# Altium footprint library Relay_THT.PcbLib: 117 footprints (part 6 of 8)
Each footprint in its own frame and in the unit in brackets; x right, y up, seen from the top. Pads: shape width x height; smd on the part's side, far side on the other; paste and mask are expansions set on the pad; w line width, h text height; cw(c..) or ccw(c..) is an arc to the next point about the centre after c.
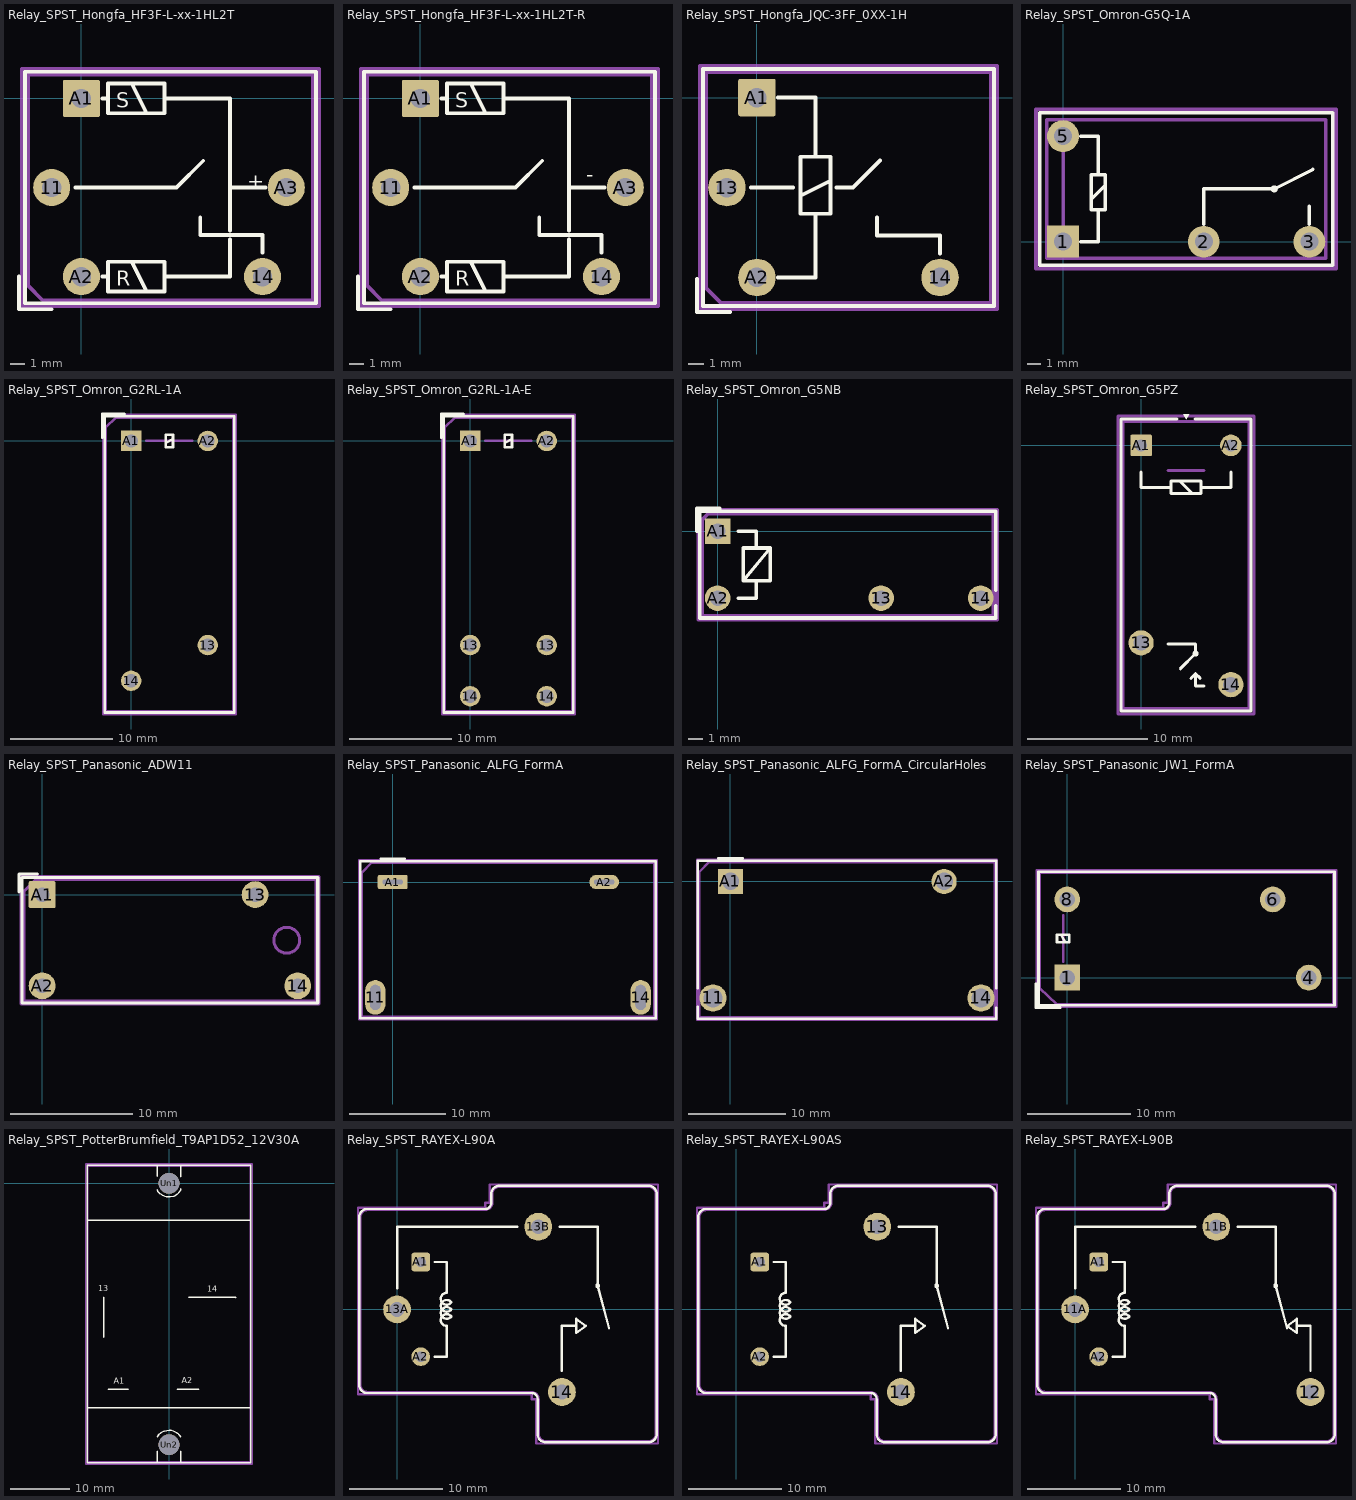
[diagram p5: the footprints below, top view; thin cyan lines are the x and y axes]

## Relay_SPST_Hongfa_HF3F-L-xx-1HL2T [mm]
pads (5):
  round 2.5 hole 1.3: 11(-2,-6) 14(12.2,-12) A2(0,-12) A3(13.8,-6)
  rrect10% 2.5x2.5 hole 1.3: A1(0,0)
F.SilkS:
  lines w0.254: -4.2,-12 -4.2,-14.2 -2,-14.2 ; -0.4,-6 6.4,-6 8.2,-4.2 ; 1.4,-12 1.8,-12 ; 1.4,0 1.8,0 ; 3.4,-11 4.4,-13 ; 3.4,1 4.4,-1 ; 5.6,-12 10,-12 10,-9.5 ; 5.6,0 10,0 10,-2.4 10,-8.9 ; 8,-8 8,-9.2 12.2,-9.2 12.2,-10.4 ; 10,-6 12.4,-6 ; -3.8,-13.8 -3.8,1.8 15.8,1.8 15.8,-13.8 -3.8,-13.8 ; 1.8,-13 1.8,-11 5.6,-11 5.6,-13 1.8,-13 ; 1.8,-1 1.8,1 5.6,1 5.6,-1 1.8,-1
  text "S" at 2.347,-0.62 h1
  text "R" at 2.347,-12.62 h1
  text "+" at 11.18,-6.048 h1
F.Fab:
  lines w0.254: -3.6,-12.6 -3.6,1.6 15.6,1.6 15.6,-13.6 -2.6,-13.6 -3.6,-12.6
  text "'.Designator'" at 2.153,-6.84 h1
F.CrtYd:
  lines w0.254: -4,-14 -4,2 16,2 16,-14 -4,-14

## Relay_SPST_Hongfa_HF3F-L-xx-1HL2T-R [mm]
pads (5):
  round 2.5 hole 1.3: 11(-2,-6) 14(12.2,-12) A2(0,-12) A3(13.8,-6)
  rrect10% 2.5x2.5 hole 1.3: A1(0,0)
F.SilkS:
  lines w0.254: -4.2,-12 -4.2,-14.2 -2,-14.2 ; -0.4,-6 6.4,-6 8.2,-4.2 ; 1.4,-12 1.8,-12 ; 1.4,0 1.8,0 ; 3.4,-11 4.4,-13 ; 3.4,1 4.4,-1 ; 5.6,-12 10,-12 10,-9.5 ; 5.6,0 10,0 10,-2.4 10,-8.9 ; 8,-8 8,-9.2 12.2,-9.2 12.2,-10.4 ; 10,-6 12.4,-6 ; -3.8,-13.8 -3.8,1.8 15.8,1.8 15.8,-13.8 -3.8,-13.8 ; 1.8,-13 1.8,-11 5.6,-11 5.6,-13 1.8,-13 ; 1.8,-1 1.8,1 5.6,1 5.6,-1 1.8,-1
  text "S" at 2.347,-0.62 h1
  text "R" at 2.347,-12.62 h1
  text "-" at 11.18,-5.62 h1
F.Fab:
  lines w0.254: -3.6,-12.6 -3.6,1.6 15.6,1.6 15.6,-13.6 -2.6,-13.6 -3.6,-12.6
  text "'.Designator'" at 2.153,-6.84 h1
F.CrtYd:
  lines w0.254: -4,-14 -4,2 16,2 16,-14 -4,-14

## Relay_SPST_Hongfa_JQC-3FF_0XX-1H [mm]
pads (4):
  round 2.5 hole 1.3: 13(-2,-6) 14(12.2,-12) A2(0,-12)
  rrect10% 2.5x2.5 hole 1.3: A1(0,0)
F.SilkS:
  lines w0.254: -4,-12.1 -4,-14.3 -1.8,-14.3 ; -0.4,-6 2.4,-6 ; 1.4,-12 3.9,-12 3.9,-7.75 ; 1.4,0 3.9,0 3.9,-3.95 ; 2.9,-6.55 4.9,-5.55 ; 5.3,-6 6.4,-6 8.2,-4.2 ; 8,-8 8,-9.2 12.2,-9.2 12.2,-10.4 ; -3.6,-13.9 -3.6,1.9 15.8,1.9 15.8,-13.9 -3.6,-13.9 ; 2.9,-7.75 2.9,-3.95 4.9,-3.95 4.9,-7.75 2.9,-7.75
F.Fab:
  lines w0.254: -3.4,-12.7 -3.4,1.7 15.6,1.7 15.6,-13.7 -2.4,-13.7 -3.4,-12.7
  text "'.Designator'" at 2.153,-6.84 h1
F.CrtYd:
  lines w0.254: -3.8,-14.1 -3.8,2.1 16,2.1 16,-14.1 -3.8,-14.1

## Relay_SPST_Omron-G5Q-1A [mm]
pads (4):
  rect 2.3x2.3 hole 1.3: 1(0,0)
  round 2.3 hole 1.3: 2(10.16,0) 3(17.78,0) 5(0,7.62)
F.SilkS:
  circle w0.254: c15.24,3.81 r0.13
  lines w0.254: 1.27,0 2.54,0 2.54,2.29 ; 1.27,7.62 2.54,7.62 2.54,4.83 ; 2.03,3.05 3.05,4.06 ; 10.16,1.27 10.16,3.81 15.24,3.81 18.03,5.21 ; 17.78,1.27 17.78,2.54 ; 2.54,2.29 3.05,2.29 3.05,4.83 2.54,4.83 ; 2.54,2.29 2.03,2.29 2.03,4.83 2.54,4.83 ; -1.68,-1.69 19.46,-1.69 19.46,9.31 -1.68,9.31 -1.68,-1.69
F.Fab:
  lines w0.254: 0,1 0,6.5 ; -1.18,-1.19 18.96,-1.19 18.96,8.81 -1.18,8.81 -1.18,-1.19
  text "'.Designator'" at 5.553,3.66 h1
F.CrtYd:
  lines w0.254: -1.95,-1.95 19.7,-1.95 19.7,9.55 -1.95,9.55 -1.95,-1.95

## Relay_SPST_Omron_G2RL-1A [mm]
pads (4):
  round 2 hole 1.3: 13(7.5,-20) 14(0,-23.5) A2(7.5,0)
  rect 2x2 hole 1.3: A1(0,0)
F.SilkS:
  lines w0.254: -2.84,0.3 -2.84,2.64 -0.65,2.64 ; 3.4,-0.2 4.1,0.2 ; -2.6,-26.6 -2.6,2.4 10.1,2.4 10.1,-26.6 -2.6,-26.6 ; 3.4,-0.6 3.4,0.6 4.1,0.6 4.1,-0.6 3.4,-0.6
F.Fab:
  lines w0.254: 1.5,0 6,0 ; -2.5,-26.5 -2.5,1.3 -1.5,2.3 10,2.3 10,-26.5 -2.5,-26.5
  text "'.Designator'" at 4.59,-16.047 h1
F.CrtYd:
  lines w0.254: -2.75,-26.75 -2.75,2.55 10.25,2.55 10.25,-26.75 -2.75,-26.75

## Relay_SPST_Omron_G2RL-1A-E [mm]
pads (6):
  round 2 hole 1.3: 13(0,-20) 13(7.5,-20) 14(0,-25) 14(7.5,-25) A2(7.5,0)
  rect 2x2 hole 1.3: A1(0,0)
F.SilkS:
  lines w0.254: -2.84,0.3 -2.84,2.64 -0.65,2.64 ; 3.4,-0.2 4.1,0.2 ; -2.6,-26.6 -2.6,2.4 10.1,2.4 10.1,-26.6 -2.6,-26.6 ; 3.4,-0.6 3.4,0.6 4.1,0.6 4.1,-0.6 3.4,-0.6
F.Fab:
  lines w0.254: 1.5,0 6,0 ; -2.5,-26.5 -2.5,1.3 -1.5,2.3 10,2.3 10,-26.5 -2.5,-26.5
  text "'.Designator'" at 4.59,-16.047 h1
F.CrtYd:
  lines w0.254: -2.75,-26.75 -2.75,2.55 10.25,2.55 10.25,-26.75 -2.75,-26.75

## Relay_SPST_Omron_G5NB [mm]
pads (4):
  rrect100% 1.8x1.8 hole 1.1: 13(11.5,-4.7) 14(18.5,-4.7) A2(0,-4.7)
  rect 1.8x1.8 hole 1.1: A1(0,0)
F.SilkS:
  lines w0.254: -1.45,0 -1.45,1.6 0.15,1.6 ; 1.44,-4.7 2.71,-4.7 2.71,-3.475 ; 1.44,0 2.71,0 2.71,-1.175 ; 19.55,-5.25 19.55,-6.1 -1.25,-6.1 -1.25,1.4 19.55,1.4 19.55,-4.15 ; 1.8,-3.475 1.8,-1.175 3.7,-1.175 ; 1.8,-3.475 3.7,-1.175 ; 1.8,-3.475 3.7,-3.475 3.7,-1.175
F.Fab:
  lines w0.254: -1.1,-5.95 -1.1,0.8 -0.65,1.25 19.4,1.25 19.4,-5.95 -1.1,-5.95
  text "'.Designator'" at 5.203,-3.19 h1
F.CrtYd:
  lines w0.254: -1.35,-6.2 -1.35,1.5 19.65,1.5 19.65,-6.2 -1.35,-6.2

## Relay_SPST_Omron_G5PZ [mm]
pads (4):
  round 2.1 hole 1.3: 13(0,-16.5) 14(7.5,-20)
  rrect14% 1.8x1.8 hole 1: A1(0,0)
  round 1.8 hole 1: A2(7.5,0)
F.SilkS:
  circle w0.254: c4.55,-17.4 r0.13
  region: 3.756,2.175 3.506,2.625 4.006,2.625
  lines w0.254: -0.03,-2.23 -0.03,-3.5 2.48,-3.5 ; 2.25,-16.6 3.85,-16.6 4.55,-16.6 4.55,-17.4 3.28,-18.67 ; 3,2.2 -1.7,2.2 -1.7,-22.2 9.2,-22.2 9.2,2.2 4.5,2.2 ; 3.242,-2.99 4.258,-4.01 ; 4.169,-19.465 4.55,-19.084 ; 4.931,-19.465 4.55,-19.084 ; 5.25,-20.1 4.55,-20.1 4.55,-19.084 ; 7.53,-2.23 7.53,-3.5 5.02,-3.5 ; 2.48,-3.5 2.48,-2.99 5.02,-2.99 5.02,-3.5 ; 2.48,-3.5 2.48,-4.01 5.02,-4.01 5.02,-3.5
F.Fab:
  lines w0.254: 2.25,-2.1 5.25,-2.1 ; -1.5,-22 -1.5,2 9,2 9,-22 -1.5,-22
  text "'.Designator'" at -1.45,-9.54 h1
F.CrtYd:
  lines w0.254: -1.95,-22.45 -1.95,2.45 9.45,2.45 9.45,-22.45 -1.95,-22.45

## Relay_SPST_Panasonic_ADW11 [mm]
pads (4):
  rrect100% 2.2x2.2 hole 1.2: 13(17.5,0) 14(21,-7.5)
  rrect10% 2.2x2.2 hole 1.2: A1(0,0)
  round 2.2 hole 1.2: A2(0,-7.5)
F.SilkS:
  lines w0.254: -1.9,0.2 -1.9,1.7 -0.4,1.7 ; -1.65,-8.9 22.65,-8.9 22.65,1.4 -1.65,1.4 -1.65,-8.9
F.Fab:
  circle w0.254: c20.1,-3.75 r1.063
  lines w0.254: -1.5,-8.75 22.5,-8.75 22.5,1.25 -0.5,1.25 -1.5,0.25 -1.5,-8.75
  text "'.Designator'" at 6.453,-4.59 h1
F.CrtYd:
  lines w0.254: -1.75,-9 22.75,-9 22.75,1.5 -1.75,1.5 -1.75,-9
3D body "Relay_SPST_Panasonic_ADW11.step": height 18.9, standoff -3.4, extent -1.5,-8.75 22.5,1.25

## Relay_SPST_Panasonic_ALFG_FormA [mm]
pads (4):
  rrect100% 2.1x3.6 hole 2.6 slot 1.1 at 0 deg: 11(-1.8,-12) 14(25.8,-12)
  rrect25% 3.1x1.5 hole 0.5 slot 2.1 at 0 deg: A1(0,0)
  rrect100% 3.1x1.5 hole 0.5 slot 2.1 at 0 deg: A2(22,0)
F.SilkS:
  lines w0.254: -1.25,2.4 1.25,2.4 ; -3.35,-14.15 27.35,-14.15 27.35,2.15 -3.35,2.15 -3.35,-14.15
F.Fab:
  lines w0.254: -3.2,-14 27.2,-14 27.2,2 -2.2,2 -3.2,1 -3.2,-14
  text "'.Designator'" at 7.453,-5.715 h1
F.CrtYd:
  lines w0.254: -3.45,-14.25 27.45,-14.25 27.45,2.25 -3.45,2.25 -3.45,-14.25

## Relay_SPST_Panasonic_ALFG_FormA_CircularHoles [mm]
pads (4):
  round 2.8 hole 2: 11(-1.8,-12) 14(25.8,-12)
  rect 2.6x2.6 hole 1.8: A1(0,0)
  round 2.6 hole 1.8: A2(22,0)
F.SilkS:
  lines w0.254: -3.35,-12.9 -3.35,-14.15 27.35,-14.15 27.35,-13 ; -3.35,-11 -3.35,2.15 27.35,2.15 27.35,-11 ; -1.25,2.4 1.25,2.4
F.Fab:
  lines w0.254: -3.2,-14 27.2,-14 27.2,2 -2.2,2 -3.2,1 -3.2,-14
  text "'.Designator'" at 8.453,-5.84 h1
F.CrtYd:
  lines w0.254: -3.45,-14.25 27.45,-14.25 27.45,2.25 -3.45,2.25 -3.45,-14.25

## Relay_SPST_Panasonic_JW1_FormA [mm]
pads (4):
  rect 2.5x2.5 hole 1.5: 1(0,0)
  rrect100% 2.5x2.5 hole 1.5: 4(23.5,0) 6(20,7.6) 8(0,7.6)
F.SilkS:
  lines w0.254: -3.04,-0.6 -3.04,-2.94 -0.7,-2.94 ; -0.6,4.15 -0.2,3.45 ; -2.8,-2.7 -2.8,10.3 26,10.3 26,-2.7 -2.8,-2.7 ; -1,3.45 -1,4.15 0.2,4.15 0.2,3.45 -1,3.45
F.Fab:
  lines w0.254: -0.4,1.55 -0.4,6.05 ; -2.7,-1 -2.7,10.2 25.9,10.2 25.9,-2.6 -1,-2.6 -2.7,-1
  text "'.Designator'" at 7.953,2.91 h1
F.CrtYd:
  lines w0.254: -2.95,-2.85 -2.95,10.45 26.15,10.45 26.15,-2.85 -2.95,-2.85
3D body "Relay_SPST_Panasonic_JW1_FormA.step": height 20, standoff -3.1, extent -2.7,-2.6 25.9,10.2

## Relay_SPST_PotterBrumfield_T9AP1D52_12V30A [mm]
pads (2):
  round 3.5 hole 3.5: Un1(0,0) Un2(0,-43.998)
F.SilkS:
  lines w0.254: -13.749,-37.749 13.749,-37.749 ; -13.749,-6.248 13.749,-6.248 ; -11.001,-25.898 -11.001,-19.223 ; -10.201,-34.699 -6.901,-34.674 ; -1.976,-47 -1.976,-45.098 ; -1.976,-42.675 -1.75,-42.324 -1.3,-41.948 -0.851,-41.725 0.076,-41.6 0.376,-41.6 0.8,-41.725 1.45,-42.05 1.826,-42.474 1.976,-42.675 ; -1.976,-1.1 -1.9,-1.374 -1.549,-1.725 -1.125,-2.024 -0.45,-2.248 0.201,-2.273 0.826,-2.174 1.275,-1.923 1.674,-1.524 1.951,-1.123 1.999,-0.95 ; -1.976,1.201 -1.976,3.002 ; 1.425,-34.699 5.001,-34.699 ; 1.951,-45.098 1.976,-46.975 ; 1.976,1.1 1.976,3.002 ; 3.325,-19.2 3.35,-19.2 11.25,-19.223 ; -13.749,-47 13.749,-47 13.749,-21.999 13.749,3.002 -13.749,3.002 -13.749,-47
  text "13" at -11.924,-18.173 h1
  text "14" at 6.452,-18.275 h1
  text "A2" at 2.169,-33.624 h1
  text "A1" at -9.291,-33.723 h1
F.Fab:
  lines w0.254: -13.7,-46.9 13.7,-46.9 13.7,2.9 -13.7,2.9 -13.7,-46.9
  text "'.Designator'" at -3.237,-22.671 h0.8
F.CrtYd:
  lines w0.254: -14,-47.25 14,-47.25 14,3.25 -14,3.25 -14,-47.25

## Relay_SPST_RAYEX-L90A [mm]
pads (5):
  round 3 hole 1.6: 13A(0,0) 13B(15.2,8.9) 14(17.74,-8.9)
  rrect25% 2x2 hole 1.1: A1(2.54,5.1)
  round 2 hole 1.1: A2(2.54,-5.1)
F.SilkS:
  circle w0.254: c21.59,2.54 r0.127
  lines w0.254: 0,2.286 0,8.9 12.954,8.9 ; 4.064,-5.105 5.334,-5.105 5.334,-1.778 cw(c5.334,-1.143) 5.842,-0.762 cw(c5.334,-0.381) 5.842,0 cw(c5.334,0.381) 5.842,0.762 cw(c5.334,1.143) 5.334,1.778 5.334,5.105 4.064,5.105 ; 17.526,8.9 21.59,8.9 21.59,2.54 22.809,-2.032 ; 17.74,-6.604 17.74,-1.778 19.304,-1.778 ; -4.07,-8.14 -4.07,9.94 cw(c-3.2,9.94) -3.2,10.81 9.48,10.81 ccw(c9.48,11.46) 10.13,11.46 10.13,12.44 cw(c11,12.44) 11,13.31 27.08,13.31 cw(c27.08,12.44) 27.95,12.44 27.95,-13.44 cw(c27.08,-13.44) 27.08,-14.31 16,-14.31 cw(c16,-13.44) 15.13,-13.44 15.13,-9.66 ccw(c14.48,-9.66) 14.48,-9.01 -3.2,-9.01 cw(c-3.2,-8.14) -4.07,-8.14 ; 19.304,-2.54 19.304,-1.016 20.32,-1.778 19.304,-2.54
F.Fab:
  lines w0.254: -3.96,-8.14 -3.96,9.94 cw(c-3.2,9.94) -3.2,10.7 9.48,10.7 ccw(c9.48,11.46) 10.24,11.46 10.24,12.44 cw(c11,12.44) 11,13.2 27.08,13.2 cw(c27.08,12.44) 27.84,12.44 27.84,-13.44 cw(c27.08,-13.44) 27.08,-14.2 16,-14.2 cw(c16,-13.44) 15.24,-13.44 15.24,-9.66 ccw(c14.48,-9.66) 14.48,-8.9 -3.2,-8.9 cw(c-3.2,-8.14) -3.96,-8.14
  text "'.Designator'" at 8.348,-0.84 h1
F.CrtYd:
  lines w0.254: -4.21,-9.15 -4.21,10.95 9.48,10.95 9.48,11.46 9.99,11.46 9.99,13.45 28.09,13.45 28.09,-14.45 14.99,-14.45 14.99,-9.66 14.48,-9.66 14.48,-9.15 -4.21,-9.15

## Relay_SPST_RAYEX-L90AS [mm]
pads (4):
  round 3 hole 1.6: 13(15.2,8.9) 14(17.74,-8.9)
  rrect25% 2x2 hole 1.1: A1(2.54,5.1)
  round 2 hole 1.1: A2(2.54,-5.1)
F.SilkS:
  circle w0.254: c21.59,2.54 r0.127
  lines w0.254: 4.064,-5.105 5.334,-5.105 5.334,-1.778 cw(c5.334,-1.143) 5.842,-0.762 cw(c5.334,-0.381) 5.842,0 cw(c5.334,0.381) 5.842,0.762 cw(c5.334,1.143) 5.334,1.778 5.334,5.105 4.064,5.105 ; 17.526,8.9 21.59,8.9 21.59,2.54 22.809,-2.032 ; 17.74,-6.604 17.74,-1.778 19.304,-1.778 ; -4.07,-8.14 -4.07,9.94 cw(c-3.2,9.94) -3.2,10.81 9.48,10.81 ccw(c9.48,11.46) 10.13,11.46 10.13,12.44 cw(c11,12.44) 11,13.31 27.08,13.31 cw(c27.08,12.44) 27.95,12.44 27.95,-13.44 cw(c27.08,-13.44) 27.08,-14.31 16,-14.31 cw(c16,-13.44) 15.13,-13.44 15.13,-9.66 ccw(c14.48,-9.66) 14.48,-9.01 -3.2,-9.01 cw(c-3.2,-8.14) -4.07,-8.14 ; 19.304,-2.54 19.304,-1.016 20.32,-1.778 19.304,-2.54
F.Fab:
  lines w0.254: -3.96,-8.14 -3.96,9.94 cw(c-3.2,9.94) -3.2,10.7 9.48,10.7 ccw(c9.48,11.46) 10.24,11.46 10.24,12.44 cw(c11,12.44) 11,13.2 27.08,13.2 cw(c27.08,12.44) 27.84,12.44 27.84,-13.44 cw(c27.08,-13.44) 27.08,-14.2 16,-14.2 cw(c16,-13.44) 15.24,-13.44 15.24,-9.66 ccw(c14.48,-9.66) 14.48,-8.9 -3.2,-8.9 cw(c-3.2,-8.14) -3.96,-8.14
  text "'.Designator'" at 8.348,-0.84 h1
F.CrtYd:
  lines w0.254: -4.21,-9.15 -4.21,10.95 9.48,10.95 9.48,11.46 9.99,11.46 9.99,13.45 28.09,13.45 28.09,-14.45 14.99,-14.45 14.99,-9.66 14.48,-9.66 14.48,-9.15 -4.21,-9.15

## Relay_SPST_RAYEX-L90B [mm]
pads (5):
  round 3 hole 1.6: 11A(0,0) 11B(15.2,8.9) 12(25.34,-8.9)
  rrect25% 2x2 hole 1.1: A1(2.54,5.1)
  round 2 hole 1.1: A2(2.54,-5.1)
F.SilkS:
  circle w0.254: c21.59,2.54 r0.127
  lines w0.254: 0,2.286 0,8.9 12.954,8.9 ; 4.064,-5.105 5.334,-5.105 5.334,-1.778 cw(c5.334,-1.143) 5.842,-0.762 cw(c5.334,-0.381) 5.842,0 cw(c5.334,0.381) 5.842,0.762 cw(c5.334,1.143) 5.334,1.778 5.334,5.105 4.064,5.105 ; 17.526,8.9 21.59,8.9 21.59,2.54 22.809,-2.032 ; 23.876,-1.778 25.34,-1.778 25.34,-6.604 ; -4.07,-8.14 -4.07,9.94 cw(c-3.2,9.94) -3.2,10.81 9.48,10.81 ccw(c9.48,11.46) 10.13,11.46 10.13,12.44 cw(c11,12.44) 11,13.31 27.08,13.31 cw(c27.08,12.44) 27.95,12.44 27.95,-13.44 cw(c27.08,-13.44) 27.08,-14.31 16,-14.31 cw(c16,-13.44) 15.13,-13.44 15.13,-9.66 ccw(c14.48,-9.66) 14.48,-9.01 -3.2,-9.01 cw(c-3.2,-8.14) -4.07,-8.14 ; 22.86,-1.778 23.876,-1.016 23.876,-2.54 22.86,-1.778
F.Fab:
  lines w0.254: -3.96,-8.14 -3.96,9.94 cw(c-3.2,9.94) -3.2,10.7 9.48,10.7 ccw(c9.48,11.46) 10.24,11.46 10.24,12.44 cw(c11,12.44) 11,13.2 27.08,13.2 cw(c27.08,12.44) 27.84,12.44 27.84,-13.44 cw(c27.08,-13.44) 27.08,-14.2 16,-14.2 cw(c16,-13.44) 15.24,-13.44 15.24,-9.66 ccw(c14.48,-9.66) 14.48,-8.9 -3.2,-8.9 cw(c-3.2,-8.14) -3.96,-8.14
  text "'.Designator'" at 8.348,-0.84 h1
F.CrtYd:
  lines w0.254: -4.21,-9.15 -4.21,10.95 9.48,10.95 9.48,11.46 9.99,11.46 9.99,13.45 28.09,13.45 28.09,-14.45 14.99,-14.45 14.99,-9.66 14.48,-9.66 14.48,-9.15 -4.21,-9.15